# Altium integrated library B72220S0681K101.IntLib: 1 symbol
Pins are listed as number, name and electrical type; pins without a type are passive.

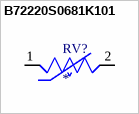
[diagram p0: symbol B72220S0681K101]

## B72220S0681K101
designator RV?
Var MOV 680VAC/895VDC 6500A 1100V Thru-Hole Radial Automotive Bulk; MF: EPCOS; MP: B72220S0681K101; SnapEDA_Link: https://www.snapeda.com/parts/B72220S0681K101/EPCOS/view-part/?ref=snap; Package: Disc-20 EPCOS - TDK Electronics; Value: *; Check_prices: https://www.snapeda.com/parts/B72220S0681K101/EPCOS/view-part/?ref=eda
footprint VAR_B72220S0681K101
pins: 1, 2